# EAGLE library part 2171790001 (library MOLEX-2171790001-USB_C)
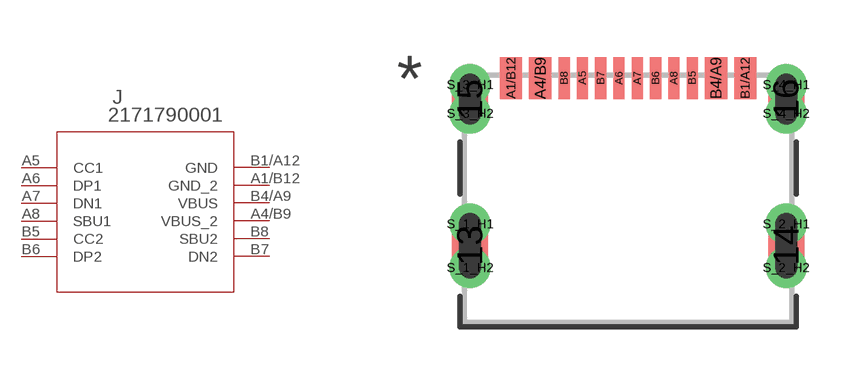
[diagram p0: symbol with the pads of 2171790001_MOL; footprint 2171790001_MOL]

Designator prefix J

## 2171790001 (COPYRIGHT: Copyright (C) 2024 Ultra Librarian. All rights reserved.; MANUFACTURER_PART_NUMBER: 2171790001; MFR_NAME: Molex Connector Corporation)  [2171790001_MOL]
A1/B12  GND_2  pas
A4/B9  VBUS_2  pwr
A5  CC1
A6  DP1
A7  DN1
A8  SBU1
B1/A12  GND  pas
B4/A9  VBUS  pwr
B5  CC2
B6  DP2
B7  DN2
B8  SBU2

## Footprint 2171790001_MOL (pad centres in mm)
smd 0.991 x 2.21: 13 -4.32,-1.272; 14 4.32,-1.272
smd 0.991 x 1.803: 15 -4.32,2.728; 16 4.32,2.728
smd 0.61 x 1.143: A1/B12 -3.2,3.303; A4/B9 -2.4,3.303; B1/A12 3.2,3.303; B4/A9 2.4,3.303
smd 0.305 x 1.143: A5 -1.25,3.303; A6 -0.25,3.303; A7 0.25,3.303; A8 1.25,3.303; B5 1.75,3.303; B6 0.75,3.303; B7 -0.75,3.303; B8 -1.75,3.303
drill 0.61 pad 0.61: S_1_H1 -4.318,-0.686; S_1_H2 -4.318,-1.88; S_2_H1 4.318,-0.686; S_2_H2 4.318,-1.88; S_3_H1 -4.318,3.124; S_3_H2 -4.318,2.337; S_4_H1 4.318,3.124; S_4_H2 4.318,2.337